# EAGLE library part PSOC4_PROTOTYPING_KIT (library mylib2)
Cypress PSoC 4 Prototyping Kit
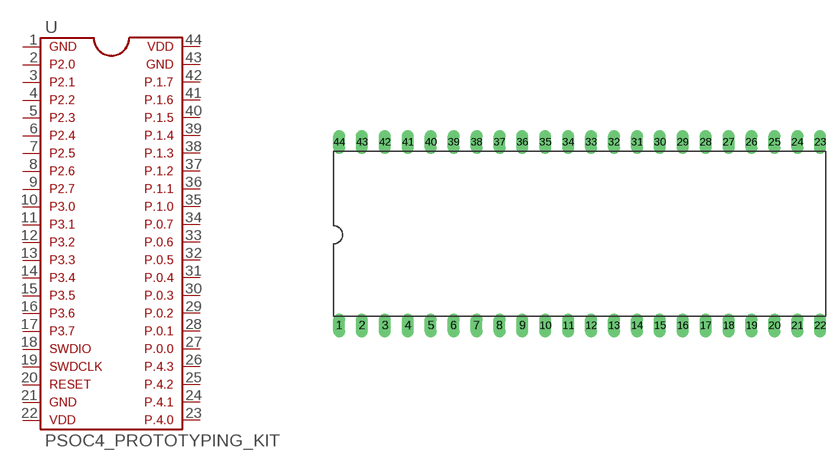
[diagram p7: symbol with the pads of DIL44-8; footprint DIL44-8]

Designator prefix -

## PSOC4_PROTOTYPING_KIT  [DIL44-8]
1  1  pas
2  2  pas
3  3  pas
4  4  pas
5  5  pas
6  6  pas
7  7  pas
8  8  pas
9  9  pas
10  10  pas
11  11  pas
12  12  pas
13  13  pas
14  14  pas
15  15  pas
16  16  pas
17  17  pas
18  18  pas
19  19  pas
20  20  pas
21  21  pas
22  22  pas
23  23  pas
24  24  pas
25  25  pas
26  26  pas
27  27  pas
28  28  pas
29  29  pas
30  30  pas
31  31  pas
32  32  pas
33  33  pas
34  34  pas
35  35  pas
36  36  pas
37  37  pas
38  38  pas
39  39  pas
40  40  pas
41  41  pas
42  42  pas
43  43  pas
44  44  pas

## Footprint DIL44-8 (pad centres in mm)
drill 0.813 long: 1 -26.67,-7.62; 2 -24.13,-7.62; 3 -21.59,-7.62; 4 -19.05,-7.62; 5 -16.51,-7.62; 6 -13.97,-7.62; 7 -11.43,-7.62; 8 -8.89,-7.62; 9 -6.35,-7.62; 10 -3.81,-7.62; 11 -1.27,-7.62; 12 1.27,-7.62; 13 3.81,-7.62; 14 6.35,-7.62; 15 8.89,-7.62; 16 11.43,-7.62; 17 13.97,-7.62; 18 16.51,-7.62; 19 19.05,-7.62; 20 21.59,-7.62; 21 24.13,-7.62; 22 26.67,-7.62; 23 26.67,12.7; 24 24.13,12.7; 25 21.59,12.7; 26 19.05,12.7; 27 16.51,12.7; 28 13.97,12.7; 29 11.43,12.7; 30 8.89,12.7; 31 6.35,12.7; 32 3.81,12.7; 33 1.27,12.7; 34 -1.27,12.7; 35 -3.81,12.7; 36 -6.35,12.7; 37 -8.89,12.7; 38 -11.43,12.7; 39 -13.97,12.7; 40 -16.51,12.7; 41 -19.05,12.7; 42 -21.59,12.7; 43 -24.13,12.7; 44 -26.67,12.7